# EAGLE library part DF40C-60 (library con-Hirose)
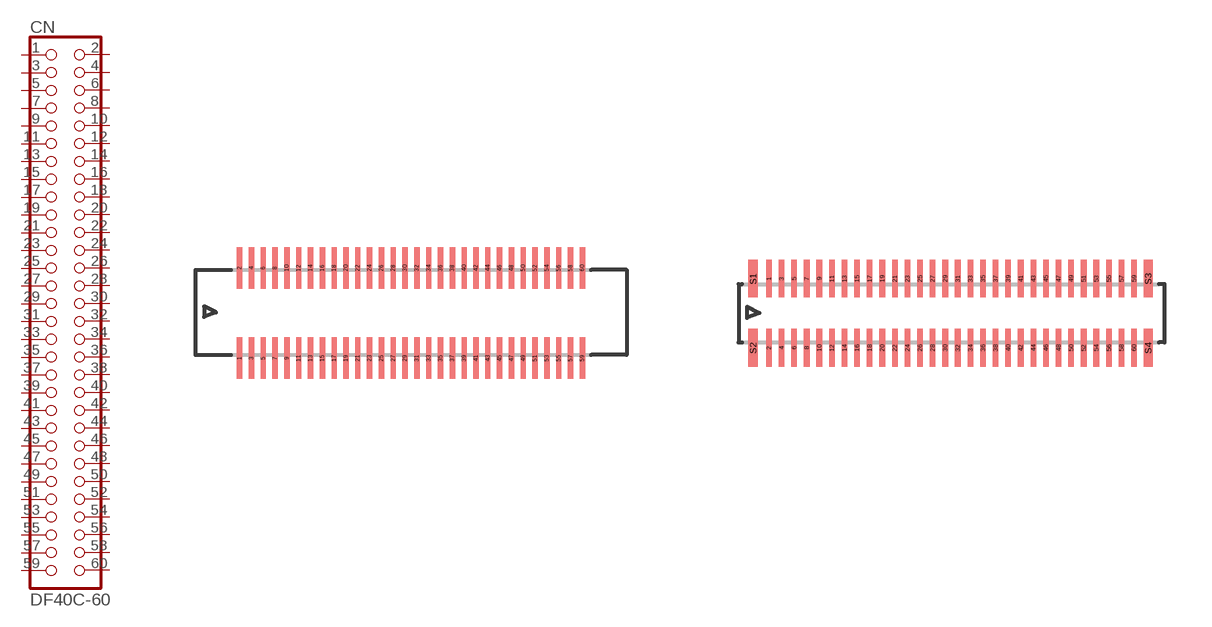
[diagram p10: symbol with the pads of DF40C-60DS; footprints DF40C-60DS, DF40C-60DP]

Designator prefix CN

## DF40C-60DS  [DF40C-60DS]
1  1  pas
2  2  pas
3  3  pas
4  4  pas
5  5  pas
6  6  pas
7  7  pas
8  8  pas
9  9  pas
10  10  pas
11  11  pas
12  12  pas
13  13  pas
14  14  pas
15  15  pas
16  16  pas
17  17  pas
18  18  pas
19  19  pas
20  20  pas
21  21  pas
22  22  pas
23  23  pas
24  24  pas
25  25  pas
26  26  pas
27  27  pas
28  28  pas
29  29  pas
30  30  pas
31  31  pas
32  32  pas
33  33  pas
34  34  pas
35  35  pas
36  36  pas
37  37  pas
38  38  pas
39  39  pas
40  40  pas
41  41  pas
42  42  pas
43  43  pas
44  44  pas
45  45  pas
46  46  pas
47  47  pas
48  48  pas
49  49  pas
50  50  pas
51  51  pas
52  52  pas
53  53  pas
54  54  pas
55  55  pas
56  56  pas
57  57  pas
58  58  pas
59  59  pas
60  60  pas

## DF40C-60DP  [DF40C-60DP]
Pads as for DF40C-60DS

## Footprint DF40C-60DS (pad centres in mm)
smd 0.18 x 1.4: 1 -5.8,-1.55; 2 -5.8,1.5; 3 -5.4,-1.55; 4 -5.4,1.5; 5 -5,-1.55; 6 -5,1.5; 7 -4.6,-1.55; 8 -4.6,1.5; 9 -4.2,-1.55; 10 -4.2,1.5; 11 -3.8,-1.55; 12 -3.8,1.5; 13 -3.4,-1.55; 14 -3.4,1.5; 15 -3,-1.55; 16 -3,1.5; 17 -2.6,-1.55; 18 -2.6,1.5; 19 -2.2,-1.55; 20 -2.2,1.5; 21 -1.8,-1.55; 22 -1.8,1.5; 23 -1.4,-1.55; 24 -1.4,1.5; 25 -1,-1.55; 26 -1,1.5; 27 -0.6,-1.55; 28 -0.6,1.5; 29 -0.2,-1.55; 30 -0.2,1.5; 31 0.2,-1.55; 32 0.2,1.5; 33 0.6,-1.55; 34 0.6,1.5; 35 1,-1.55; 36 1,1.5; 37 1.4,-1.55; 38 1.4,1.5; 39 1.8,-1.55; 40 1.8,1.5; 41 2.2,-1.55; 42 2.2,1.5; 43 2.6,-1.55; 44 2.6,1.5; 45 3,-1.55; 46 3,1.5; 47 3.4,-1.55; 48 3.4,1.5; 49 3.8,-1.55; 50 3.8,1.5; 51 4.2,-1.55; 52 4.2,1.5; 53 4.6,-1.55; 54 4.6,1.5; 55 5,-1.55; 56 5,1.5; 57 5.4,-1.55; 58 5.4,1.5; 59 5.8,-1.55; 60 5.8,1.5

## Footprint DF40C-60DP (pad centres in mm)
smd 0.18 x 1.2: 1 -5.8,1.1; 2 -5.8,-1.1; 3 -5.4,1.1; 4 -5.4,-1.1; 5 -5,1.1; 6 -5,-1.1; 7 -4.6,1.1; 8 -4.6,-1.1; 9 -4.2,1.1; 10 -4.2,-1.1; 11 -3.8,1.1; 12 -3.8,-1.1; 13 -3.4,1.1; 14 -3.4,-1.1; 15 -3,1.1; 16 -3,-1.1; 17 -2.6,1.1; 18 -2.6,-1.1; 19 -2.2,1.1; 20 -2.2,-1.1; 21 -1.8,1.1; 22 -1.8,-1.1; 23 -1.4,1.1; 24 -1.4,-1.1; 25 -1,1.1; 26 -1,-1.1; 27 -0.6,1.1; 28 -0.6,-1.1; 29 -0.2,1.1; 30 -0.2,-1.1; 31 0.2,1.1; 32 0.2,-1.1; 33 0.6,1.1; 34 0.6,-1.1; 35 1,1.1; 36 1,-1.1; 37 1.4,1.1; 38 1.4,-1.1; 39 1.8,1.1; 40 1.8,-1.1; 41 2.2,1.1; 42 2.2,-1.1; 43 2.6,1.1; 44 2.6,-1.1; 45 3,1.1; 46 3,-1.1; 47 3.4,1.1; 48 3.4,-1.1; 49 3.8,1.1; 50 3.8,-1.1; 51 4.2,1.1; 52 4.2,-1.1; 53 4.6,1.1; 54 4.6,-1.1; 55 5,1.1; 56 5,-1.1; 57 5.4,1.1; 58 5.4,-1.1; 59 5.8,1.1; 60 5.8,-1.1
smd 0.3 x 1.2: S1 -6.3,1.1; S2 -6.3,-1.1; S3 6.25,1.1; S4 6.25,-1.1